# EAGLE library part CDCE949_PW_24 (library ti-pll)
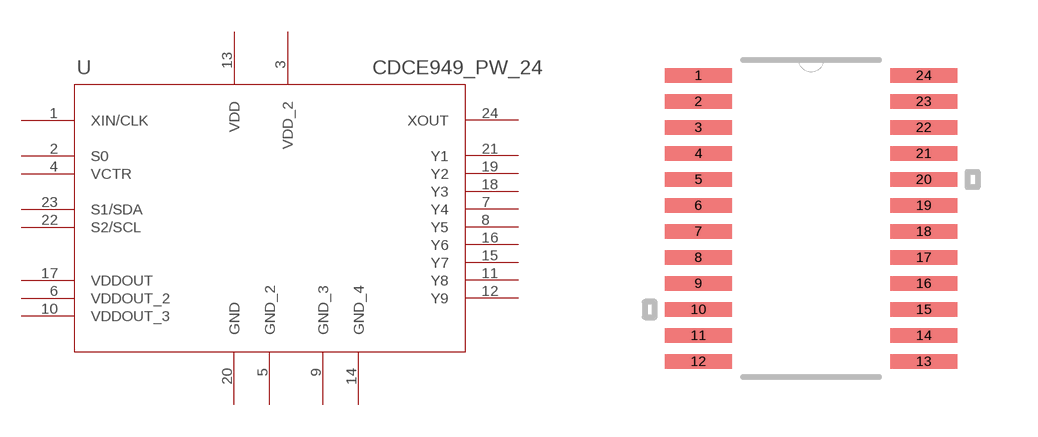
[diagram p0: symbol with the pads of PW24; footprint PW24]

Designator prefix U

## CDCE949_PW_24 (DATASHEETURL: http://www.ti.com/lit/gpn/CDCE949; DESCRIPTION: Programmable 4-PLL VCXO Clock Synthesizer with 2.5V or 3.3V LVCMOS Outputs; FAMILY_NAME: VCXO INPUT; GENERIC_PART_NUMBER: CDCE949; INDUSTRY_STD_PKG_TYPE: TSSOP; MANUFACTURER: Texas Instruments; PACKAGE_DESIGNATOR: PW; PIN_COUNT: 24)  [PW24]
1  XIN/CLK  in
2  S0  in
3  VDD_2  pwr
4  VCTR  pwr
5  GND_2  pwr
6  VDDOUT_2  pwr
7  Y4  out
8  Y5  out
9  GND_3  pwr
10  VDDOUT_3  pwr
11  Y8  out
12  Y9  out
13  VDD  pwr
14  GND_4  pwr
15  Y7  out
16  Y6  out
17  VDDOUT  pwr
18  Y3  out
19  Y2  out
20  GND  pwr
21  Y1  out
22  S2/SCL  in
23  S1/SDA
24  XOUT  out

## Footprint PW24 (pad centres in mm)
smd 1.676 x 0.356: 1 -2.819,3.575; 2 -2.819,2.925; 3 -2.819,2.275; 4 -2.819,1.625; 5 -2.819,0.975; 6 -2.819,0.325; 7 -2.819,-0.325; 8 -2.819,-0.975; 9 -2.819,-1.625; 10 -2.819,-2.275; 11 -2.819,-2.925; 12 -2.819,-3.575; 13 2.819,-3.575; 14 2.819,-2.925; 15 2.819,-2.275; 16 2.819,-1.625; 17 2.819,-0.975; 18 2.819,-0.325; 19 2.819,0.325; 20 2.819,0.975; 21 2.819,1.625; 22 2.819,2.275; 23 2.819,2.925; 24 2.819,3.575